# EAGLE library part DUAL-USB-A (library my_parts)
A Dual-USB A jack.
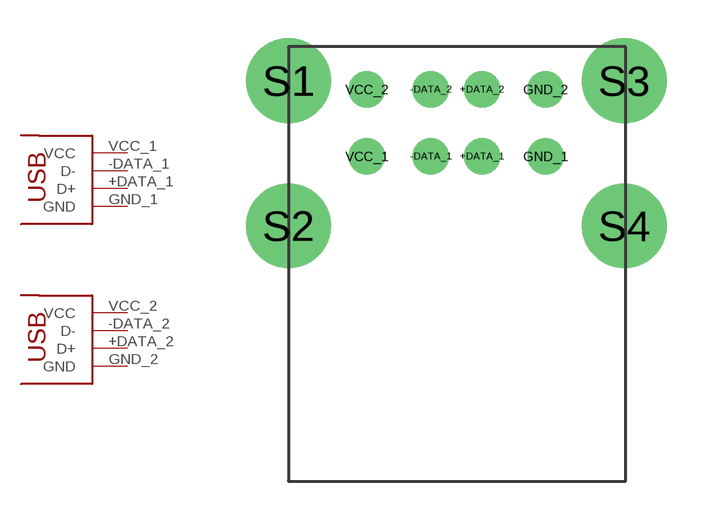
[diagram p1: symbol with the pads of DUAL-USB-A; footprint DUAL-USB-A]

Designator prefix -; gates G$1=DUAL_USB_A G$2=DUAL_USB_A

## DUAL-USB-A  [DUAL-USB-A]
+DATA_1  G$1:D+
+DATA_2  G$2:D+
-DATA_1  G$1:D-
-DATA_2  G$2:D-
GND_1  G$1:GND
GND_2  G$2:GND
VCC_1  G$1:VCC
VCC_2  G$2:VCC

## Footprint DUAL-USB-A (pad centres in mm)
drill 0.92: +DATA_1 7.57,2.71; +DATA_2 7.57,5.33; -DATA_1 5.57,2.71; -DATA_2 5.57,5.33; GND_1 10.07,2.71; GND_2 10.07,5.33; VCC_1 3.07,2.71; VCC_2 3.07,5.33
drill 2.3: S1 0,5.68; S2 0,0; S3 13.14,5.68; S4 13.14,0